# Altium integrated library 100SP1T1B4M2QE.IntLib: 1 symbol
Pins are listed as number, name and electrical type; pins without a type are passive.

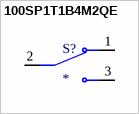
[diagram p0: symbol 100SP1T1B4M2QE]

## 100SP1T1B4M2QE
designator S?
Toggle Switch SPDT Through Hole; MP: 100SP1T1B4M2QE; Package: None; Price: None; Value: *; Availability: Unavailable
footprint SW_100SP1T1B4M2QE
pins: 1, 2, 3